# Altium integrated library Intersil Discrete MOSFET.IntLib: 281 symbols (part 2 of 5)
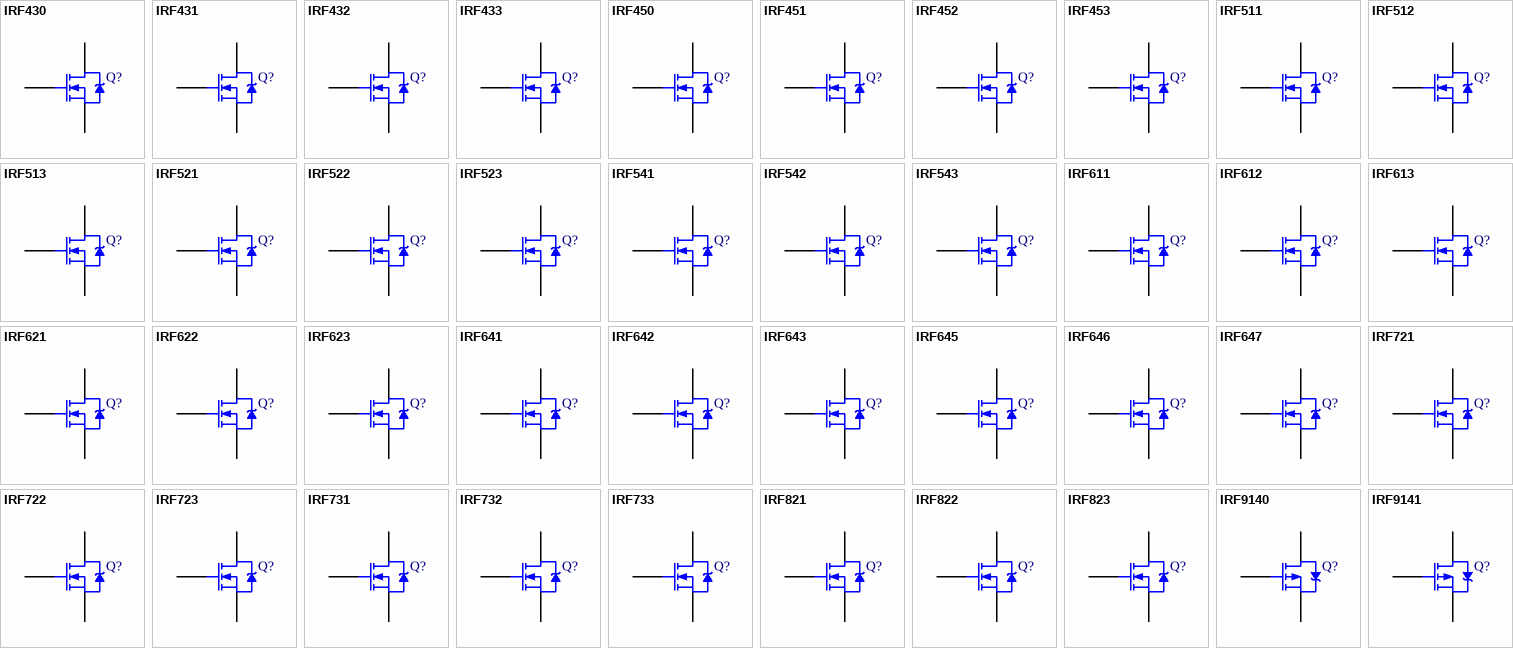
[diagram p8: symbols IRF430 to IRF9141]

## IRF722
designator Q?
2.8A, 400V, 2.5 Ohm, N-Channel Power MOSFET; Note: Pin 2 (drain) is electrically connected to the flange; Published: 8-Jun-2000; LatestRevisionDate: 17-Jul-2002; LatestRevisionNote: Re-released for DXP Platform.; DatasheetVersion: Jul-1998; PackageVersion: 1994; PackageReference: TO-220AB; Publisher: Altium Limited; PackageDescription: TO, Thru-Hole, Vertical, Heatsink Mounted; 3 In-Line Leads; Pitch 2.54 mm; ComponentLink1Description: Manufacturer Link; ComponentLink1URL: http://www.intersil.com/cda/home/
footprint TO-220AB (TO, Thru-Hole, Vertical, Heatsink Mounted; 3 In-Line Leads; Pitch 2.54 mm)
simulation model IRF722 (SUBCKT)
pins: 1 G, 2 D, 3 S

## IRF723
designator Q?
2.8A, 350V, 2.5 Ohm, N-Channel Power MOSFET; Note: Pin 2 (drain) is electrically connected to the flange; Published: 8-Jun-2000; LatestRevisionDate: 17-Jul-2002; LatestRevisionNote: Re-released for DXP Platform.; DatasheetVersion: Jul-1998; PackageVersion: 1994; PackageReference: TO-220AB; Publisher: Altium Limited; PackageDescription: TO, Thru-Hole, Vertical, Heatsink Mounted; 3 In-Line Leads; Pitch 2.54 mm; ComponentLink1Description: Manufacturer Link; ComponentLink1URL: http://www.intersil.com/cda/home/
footprint TO-220AB (TO, Thru-Hole, Vertical, Heatsink Mounted; 3 In-Line Leads; Pitch 2.54 mm)
simulation model IRF723 (SUBCKT)
pins: 1 G, 2 D, 3 S

## IRF731
designator Q?
5.5A, 350V, 1.0 Ohm, N-Channel Power MOSFET; Note: Pin 2 (drain) is electrically connected to the flange; Published: 8-Jun-2000; LatestRevisionDate: 17-Jul-2002; LatestRevisionNote: Re-released for DXP Platform.; DatasheetVersion: Jul-1998; PackageVersion: 1994; PackageReference: TO-220AB; Publisher: Altium Limited; PackageDescription: TO, Thru-Hole, Vertical, Heatsink Mounted; 3 In-Line Leads; Pitch 2.54 mm; ComponentLink1Description: Manufacturer Link; ComponentLink1URL: http://www.intersil.com/cda/home/
footprint TO-220AB (TO, Thru-Hole, Vertical, Heatsink Mounted; 3 In-Line Leads; Pitch 2.54 mm)
simulation model IRF731 (SUBCKT)
pins: 1 G, 2 D, 3 S

## IRF732
designator Q?
4.5A, 400V, 1.5 Ohm, N-Channel Power MOSFET; Note: Pin 2 (drain) is electrically connected to the flange; Published: 8-Jun-2000; LatestRevisionDate: 17-Jul-2002; LatestRevisionNote: Re-released for DXP Platform.; DatasheetVersion: Jul-1998; PackageVersion: 1994; PackageReference: TO-220AB; Publisher: Altium Limited; PackageDescription: TO, Thru-Hole, Vertical, Heatsink Mounted; 3 In-Line Leads; Pitch 2.54 mm; ComponentLink1Description: Manufacturer Link; ComponentLink1URL: http://www.intersil.com/cda/home/
footprint TO-220AB (TO, Thru-Hole, Vertical, Heatsink Mounted; 3 In-Line Leads; Pitch 2.54 mm)
simulation model IRF732 (SUBCKT)
pins: 1 G, 2 D, 3 S

## IRF733
designator Q?
4.5A, 350V, 1.5 Ohm, N-Channel Power MOSFET; Note: Pin 2 (drain) is electrically connected to the flange; Published: 8-Jun-2000; LatestRevisionDate: 17-Jul-2002; LatestRevisionNote: Re-released for DXP Platform.; DatasheetVersion: Jul-1998; PackageVersion: 1994; PackageReference: TO-220AB; Publisher: Altium Limited; PackageDescription: TO, Thru-Hole, Vertical, Heatsink Mounted; 3 In-Line Leads; Pitch 2.54 mm; ComponentLink1Description: Manufacturer Link; ComponentLink1URL: http://www.intersil.com/cda/home/
footprint TO-220AB (TO, Thru-Hole, Vertical, Heatsink Mounted; 3 In-Line Leads; Pitch 2.54 mm)
simulation model IRF733 (SUBCKT)
pins: 1 G, 2 D, 3 S

## IRF821
designator Q?
2.5A, 450V, 3.0 Ohm, N-Channel Power MOSFET; Note: Pin 2 (drain) is electrically connected to the flange; Published: 8-Jun-2000; LatestRevisionDate: 17-Jul-2002; LatestRevisionNote: Re-released for DXP Platform.; DatasheetVersion: Jul-1998; PackageVersion: 1994; PackageReference: TO-220AB; Publisher: Altium Limited; PackageDescription: TO, Thru-Hole, Vertical, Heatsink Mounted; 3 In-Line Leads; Pitch 2.54 mm; ComponentLink1Description: Manufacturer Link; ComponentLink1URL: http://www.intersil.com/cda/home/
footprint TO-220AB (TO, Thru-Hole, Vertical, Heatsink Mounted; 3 In-Line Leads; Pitch 2.54 mm)
simulation model IRF821 (SUBCKT)
pins: 1 G, 2 D, 3 S

## IRF822
designator Q?
2.2A, 500V, 4.0 Ohm, N-Channel Power  MOSFET; Note: Pin 2 (drain) is electrically connected to the flange; Published: 8-Jun-2000; LatestRevisionDate: 17-Jul-2002; LatestRevisionNote: Re-released for DXP Platform.; DatasheetVersion: Jul-1998; PackageVersion: 1994; PackageReference: TO-220AB; Publisher: Altium Limited; PackageDescription: TO, Thru-Hole, Vertical, Heatsink Mounted; 3 In-Line Leads; Pitch 2.54 mm; ComponentLink1Description: Manufacturer Link; ComponentLink1URL: http://www.intersil.com/cda/home/
footprint TO-220AB (TO, Thru-Hole, Vertical, Heatsink Mounted; 3 In-Line Leads; Pitch 2.54 mm)
simulation model IRF822 (SUBCKT)
pins: 1 G, 2 D, 3 S

## IRF823
designator Q?
2.2A, 450V, 4.0 Ohm, N-Channel Power MOSFET; Note: Pin 2 (drain) is electrically connected to the flange; Published: 8-Jun-2000; LatestRevisionDate: 17-Jul-2002; LatestRevisionNote: Re-released for DXP Platform.; DatasheetVersion: Jul-1998; PackageVersion: 1994; PackageReference: TO-220AB; Publisher: Altium Limited; PackageDescription: TO, Thru-Hole, Vertical, Heatsink Mounted; 3 In-Line Leads; Pitch 2.54 mm; ComponentLink1Description: Manufacturer Link; ComponentLink1URL: http://www.intersil.com/cda/home/
footprint TO-220AB (TO, Thru-Hole, Vertical, Heatsink Mounted; 3 In-Line Leads; Pitch 2.54 mm)
simulation model IRF823 (SUBCKT)
pins: 1 G, 2 D, 3 S

## IRF9140
designator Q?
-19A, -100V, 0.20 Ohm, P-Channel Power MOSFET; Note: Pin 3 (drain) is the flange/case; Published: 8-Jun-2000; LatestRevisionDate: 17-Jul-2002; LatestRevisionNote: Re-released for DXP Platform.; DatasheetVersion: Nov-1997; PackageVersion: 1994; PackageReference: TO-204AA; Publisher: Altium Limited; PackageDescription: Oval Flange Mount with (2) Offset Leads; Pin Spacing 10.92 mm; Lead Dia. 1.06 mm (max); Code_JEDEC: TO-204 AA; ComponentLink1Description: Manufacturer Link; ComponentLink1URL: http://www.intersil.com/cda/home/
footprint TO-204AA (Oval Flange Mount with (2) Offset Leads; Pin Spacing 10.92 mm; Lead Dia. 1.06 mm (max))
simulation model IRF9140 (SUBCKT)
pins: 1 G, 2 S, 3 D

## IRF9141
designator Q?
-19A, -80V, 0.20 Ohm, P-Channel Power MOSFET; Note: Pin 3 (drain) is the flange/case; Published: 8-Jun-2000; LatestRevisionDate: 17-Jul-2002; LatestRevisionNote: Re-released for DXP Platform.; DatasheetVersion: Nov-1997; PackageVersion: 1994; PackageReference: TO-204AA; Publisher: Altium Limited; PackageDescription: Oval Flange Mount with (2) Offset Leads; Pin Spacing 10.92 mm; Lead Dia. 1.06 mm (max); Code_JEDEC: TO-204 AA; ComponentLink1Description: Manufacturer Link; ComponentLink1URL: http://www.intersil.com/cda/home/
footprint TO-204AA (Oval Flange Mount with (2) Offset Leads; Pin Spacing 10.92 mm; Lead Dia. 1.06 mm (max))
simulation model IRF9141 (SUBCKT)
pins: 1 G, 2 S, 3 D

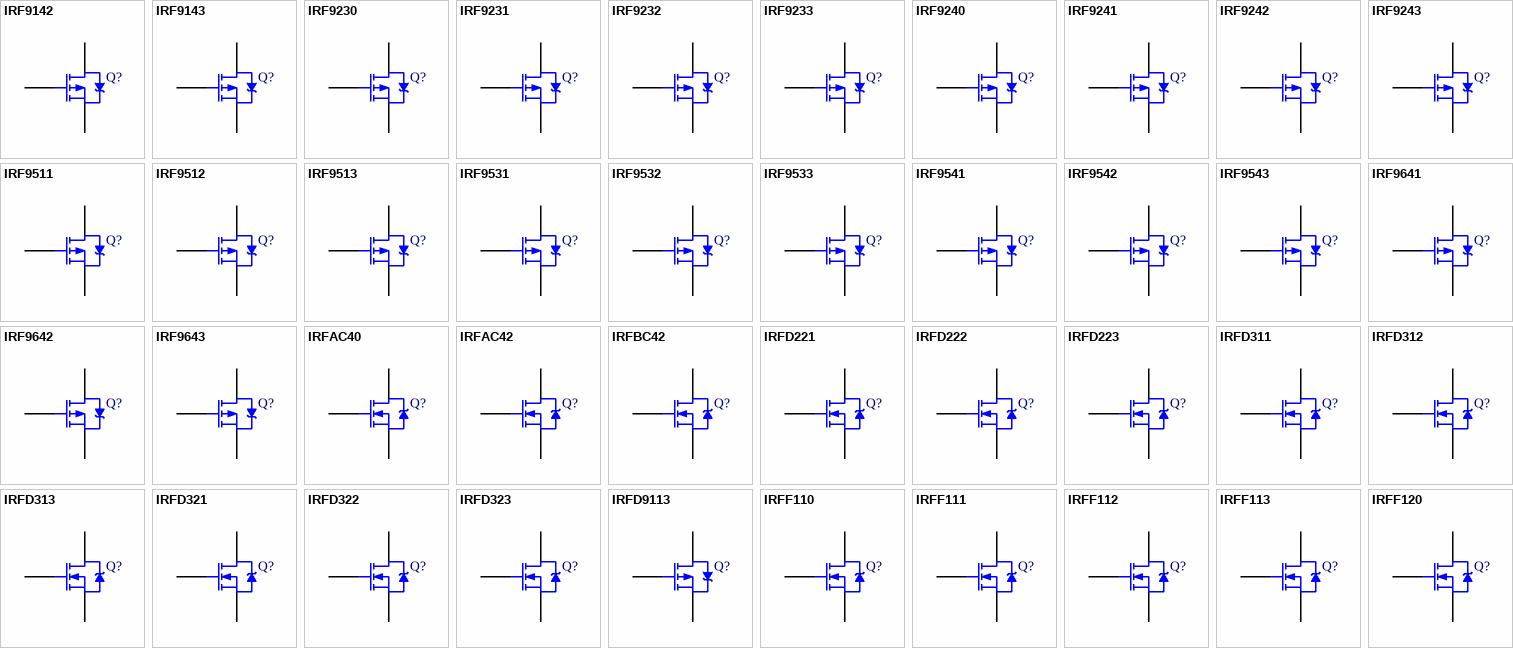
[diagram p2: symbols IRF9142 to IRFF120]

## IRF9142
designator Q?
-15A, -100V, 0.30 Ohm, P-Channel Power MOSFET; Note: Pin 3 (drain) is the flange/case; Published: 8-Jun-2000; LatestRevisionDate: 17-Jul-2002; LatestRevisionNote: Re-released for DXP Platform.; DatasheetVersion: Nov-1997; PackageVersion: 1994; PackageReference: TO-204AA; Publisher: Altium Limited; PackageDescription: Oval Flange Mount with (2) Offset Leads; Pin Spacing 10.92 mm; Lead Dia. 1.06 mm (max); Code_JEDEC: TO-204 AA; ComponentLink1Description: Manufacturer Link; ComponentLink1URL: http://www.intersil.com/cda/home/
footprint TO-204AA (Oval Flange Mount with (2) Offset Leads; Pin Spacing 10.92 mm; Lead Dia. 1.06 mm (max))
simulation model IRF9142 (SUBCKT)
pins: 1 G, 2 S, 3 D

## IRF9143
designator Q?
-15A, -80V, 0.30 Ohm, P-Channel Power MOSFET; Note: Pin 3 (drain) is the flange/case; Published: 8-Jun-2000; LatestRevisionDate: 17-Jul-2002; LatestRevisionNote: VTO made negative; Re-released for DXP Platform.; DatasheetVersion: Nov-1997; PackageVersion: 1994; PackageReference: TO-204AA; Publisher: Altium Limited; PackageDescription: Oval Flange Mount with (2) Offset Leads; Pin Spacing 10.92 mm; Lead Dia. 1.06 mm (max); Code_JEDEC: TO-204 AA; ComponentLink1Description: Manufacturer Link; ComponentLink1URL: http://www.intersil.com/cda/home/
footprint TO-204AA (Oval Flange Mount with (2) Offset Leads; Pin Spacing 10.92 mm; Lead Dia. 1.06 mm (max))
simulation model IRF9143 (SUBCKT)
pins: 1 G, 2 S, 3 D

## IRF9230
designator Q?
-6.5A, -200V, 0.8 Ohm, P-Channel Power MOSFET; Note: Pin 3 (drain) is the flange/case; Published: 8-Jun-2000; LatestRevisionDate: 17-Jul-2002; LatestRevisionNote: VTO made negative; Re-released for DXP Platform.; DatasheetVersion: Jan-1998; PackageVersion: 1994; PackageReference: TO-204AA; Publisher: Altium Limited; PackageDescription: Oval Flange Mount with (2) Offset Leads; Pin Spacing 10.92 mm; Lead Dia. 1.06 mm (max); Code_JEDEC: TO-204 AA; ComponentLink1Description: Manufacturer Link; ComponentLink1URL: http://www.intersil.com/cda/home/
footprint TO-204AA (Oval Flange Mount with (2) Offset Leads; Pin Spacing 10.92 mm; Lead Dia. 1.06 mm (max))
simulation model IRF9230 (SUBCKT)
pins: 1 G, 2 S, 3 D

## IRF9231
designator Q?
-6.5A, -150V, 0.8 Ohm, P-Channel Power MOSFET; Note: Pin 3 (drain) is the flange/case; Published: 8-Jun-2000; LatestRevisionDate: 17-Jul-2002; LatestRevisionNote: Re-released for DXP Platform.; DatasheetVersion: Jan-1998; PackageVersion: 1994; PackageReference: TO-204AA; Publisher: Altium Limited; PackageDescription: Oval Flange Mount with (2) Offset Leads; Pin Spacing 10.92 mm; Lead Dia. 1.06 mm (max); Code_JEDEC: TO-204 AA; ComponentLink1Description: Manufacturer Link; ComponentLink1URL: http://www.intersil.com/cda/home/
footprint TO-204AA (Oval Flange Mount with (2) Offset Leads; Pin Spacing 10.92 mm; Lead Dia. 1.06 mm (max))
simulation model IRF9231 (SUBCKT)
pins: 1 G, 2 S, 3 D

## IRF9232
designator Q?
-5.5A, -200V, 1.2 Ohm, P-Channel Power MOSFET; Note: Pin 3 (drain) is the flange/case; Published: 8-Jun-2000; LatestRevisionDate: 17-Jul-2002; LatestRevisionNote: Re-released for DXP Platform.; DatasheetVersion: Jan-1998; PackageVersion: 1994; PackageReference: TO-204AA; Publisher: Altium Limited; PackageDescription: Oval Flange Mount with (2) Offset Leads; Pin Spacing 10.92 mm; Lead Dia. 1.06 mm (max); Code_JEDEC: TO-204 AA; ComponentLink1Description: Manufacturer Link; ComponentLink1URL: http://www.intersil.com/cda/home/
footprint TO-204AA (Oval Flange Mount with (2) Offset Leads; Pin Spacing 10.92 mm; Lead Dia. 1.06 mm (max))
simulation model IRF9232 (SUBCKT)
pins: 1 G, 2 S, 3 D

## IRF9233
designator Q?
-5.5A, -150V, 1.2 Ohm, P-Channel Power MOSFET; Note: Pin 3 (drain) is the flange/case; Published: 8-Jun-2000; LatestRevisionDate: 17-Jul-2002; LatestRevisionNote: VTO made negative; Re-released for DXP Platform.; DatasheetVersion: Jan-1998; PackageVersion: 1994; PackageReference: TO-204AA; Publisher: Altium Limited; PackageDescription: Oval Flange Mount with (2) Offset Leads; Pin Spacing 10.92 mm; Lead Dia. 1.06 mm (max); Code_JEDEC: TO-204 AA; ComponentLink1Description: Manufacturer Link; ComponentLink1URL: http://www.intersil.com/cda/home/
footprint TO-204AA (Oval Flange Mount with (2) Offset Leads; Pin Spacing 10.92 mm; Lead Dia. 1.06 mm (max))
simulation model IRF9233 (SUBCKT)
pins: 1 G, 2 S, 3 D

## IRF9240
designator Q?
-11A, -200V, 0.5 Ohm, P-Channel Power MOSFET; Note: Pin 3 (drain) is the flange/case; Published: 8-Jun-2000; LatestRevisionDate: 17-Jul-2002; LatestRevisionNote: Re-released for DXP Platform.; DatasheetVersion: Jan-1998; PackageVersion: 1994; PackageReference: TO-204AA; Publisher: Altium Limited; PackageDescription: Oval Flange Mount with (2) Offset Leads; Pin Spacing 10.92 mm; Lead Dia. 1.06 mm (max); Code_JEDEC: TO-204 AA; ComponentLink1Description: Manufacturer Link; ComponentLink1URL: http://www.intersil.com/cda/home/
footprint TO-204AA (Oval Flange Mount with (2) Offset Leads; Pin Spacing 10.92 mm; Lead Dia. 1.06 mm (max))
simulation model IRF9240 (SUBCKT)
pins: 1 G, 2 S, 3 D

## IRF9241
designator Q?
-11A, -150V, 0.5 Ohm, P-Channel Power MOSFET; Note: Pin 3 (drain) is the flange/case; Published: 8-Jun-2000; LatestRevisionDate: 17-Jul-2002; LatestRevisionNote: VTO made negative; Re-released for DXP Platform.; DatasheetVersion: Jan-1998; PackageVersion: 1994; PackageReference: TO-204AA; Publisher: Altium Limited; PackageDescription: Oval Flange Mount with (2) Offset Leads; Pin Spacing 10.92 mm; Lead Dia. 1.06 mm (max); Code_JEDEC: TO-204 AA; ComponentLink1Description: Manufacturer Link; ComponentLink1URL: http://www.intersil.com/cda/home/
footprint TO-204AA (Oval Flange Mount with (2) Offset Leads; Pin Spacing 10.92 mm; Lead Dia. 1.06 mm (max))
simulation model IRF9241 (SUBCKT)
pins: 1 G, 2 S, 3 D

## IRF9242
designator Q?
-9A, -200V, 0.7 Ohm, P-Channel Power MOSFET; Note: Pin 3 (drain) is the flange/case; Published: 8-Jun-2000; LatestRevisionDate: 17-Jul-2002; LatestRevisionNote: Re-released for DXP Platform.; DatasheetVersion: Jan-1998; PackageVersion: 1994; PackageReference: TO-204AA; Publisher: Altium Limited; PackageDescription: Oval Flange Mount with (2) Offset Leads; Pin Spacing 10.92 mm; Lead Dia. 1.06 mm (max); Code_JEDEC: TO-204 AA; ComponentLink1Description: Manufacturer Link; ComponentLink1URL: http://www.intersil.com/cda/home/
footprint TO-204AA (Oval Flange Mount with (2) Offset Leads; Pin Spacing 10.92 mm; Lead Dia. 1.06 mm (max))
simulation model IRF9242 (SUBCKT)
pins: 1 G, 2 S, 3 D

## IRF9243
designator Q?
-9A, -150V, 0.7 Ohm, P-Channel Power MOSFET; Note: Pin 3 (drain) is the flange/case; Published: 8-Jun-2000; LatestRevisionDate: 17-Jul-2002; LatestRevisionNote: VTO made negative; Re-released for DXP Platform.; DatasheetVersion: Jan-1998; PackageVersion: 1994; PackageReference: TO-204AA; Publisher: Altium Limited; PackageDescription: Oval Flange Mount with (2) Offset Leads; Pin Spacing 10.92 mm; Lead Dia. 1.06 mm (max); Code_JEDEC: TO-204 AA; ComponentLink1Description: Manufacturer Link; ComponentLink1URL: http://www.intersil.com/cda/home/
footprint TO-204AA (Oval Flange Mount with (2) Offset Leads; Pin Spacing 10.92 mm; Lead Dia. 1.06 mm (max))
simulation model IRF9243 (SUBCKT)
pins: 1 G, 2 S, 3 D

## IRF9511
designator Q?
-3A, -80V, 1.2 Ohm, P-Channel Power MOSFET; Note: Pin 2 (drain) is electrically connected to the flange; Published: 8-Jun-2000; LatestRevisionDate: 17-Jul-2002; LatestRevisionNote: Re-released for DXP Platform.; DatasheetVersion: Jan-1998; PackageVersion: 1994; PackageReference: TO-220AB; Publisher: Altium Limited; PackageDescription: TO, Thru-Hole, Vertical, Heatsink Mounted; 3 In-Line Leads; Pitch 2.54 mm; ComponentLink1Description: Manufacturer Link; ComponentLink1URL: http://www.intersil.com/cda/home/
footprint TO-220AB (TO, Thru-Hole, Vertical, Heatsink Mounted; 3 In-Line Leads; Pitch 2.54 mm)
simulation model IRF9511 (SUBCKT)
pins: 1 G, 2 D, 3 S

## IRF9512
designator Q?
-2.5A, -100V, 1.6 Ohm, P-Channel Power MOSFET; Note: Pin 2 (drain) is electrically connected to the flange; Published: 8-Jun-2000; LatestRevisionDate: 17-Jul-2002; LatestRevisionNote: Re-released for DXP Platform.; DatasheetVersion: Jan-1998; PackageVersion: 1994; PackageReference: TO-220AB; Publisher: Altium Limited; PackageDescription: TO, Thru-Hole, Vertical, Heatsink Mounted; 3 In-Line Leads; Pitch 2.54 mm; ComponentLink1Description: Manufacturer Link; ComponentLink1URL: http://www.intersil.com/cda/home/
footprint TO-220AB (TO, Thru-Hole, Vertical, Heatsink Mounted; 3 In-Line Leads; Pitch 2.54 mm)
simulation model IRF9512 (SUBCKT)
pins: 1 G, 2 D, 3 S

## IRF9513
designator Q?
-2.5A, -80V, 1.6 Ohm, P-Channel Power MOSFET; Note: Pin 2 (drain) is electrically connected to the flange; Published: 8-Jun-2000; LatestRevisionDate: 17-Jul-2002; LatestRevisionNote: VTO made negative; Re-released for DXP Platform.; DatasheetVersion: Jan-1998; PackageVersion: 1994; PackageReference: TO-220AB; Publisher: Altium Limited; PackageDescription: TO, Thru-Hole, Vertical, Heatsink Mounted; 3 In-Line Leads; Pitch 2.54 mm; ComponentLink1Description: Manufacturer Link; ComponentLink1URL: http://www.intersil.com/cda/home/
footprint TO-220AB (TO, Thru-Hole, Vertical, Heatsink Mounted; 3 In-Line Leads; Pitch 2.54 mm)
simulation model IRF9513 (SUBCKT)
pins: 1 G, 2 D, 3 S

## IRF9531
designator Q?
-12A, -80V, 0.3 Ohm, P-Channel Power MOSFET; Note: Pin 2 (drain) is electrically connected to the flange; Published: 8-Jun-2000; LatestRevisionDate: 17-Jul-2002; LatestRevisionNote: VTO made negative; Re-released for DXP Platform.; DatasheetVersion: Jan-1998; PackageVersion: 1994; PackageReference: TO-220AB; Publisher: Altium Limited; PackageDescription: TO, Thru-Hole, Vertical, Heatsink Mounted; 3 In-Line Leads; Pitch 2.54 mm; ComponentLink1Description: Manufacturer Link; ComponentLink1URL: http://www.intersil.com/cda/home/
footprint TO-220AB (TO, Thru-Hole, Vertical, Heatsink Mounted; 3 In-Line Leads; Pitch 2.54 mm)
simulation model IRF9531 (SUBCKT)
pins: 1 G, 2 D, 3 S

## IRF9532
designator Q?
-10A, -100V, 0.4 Ohm, P-Channel Power MOSFET; Note: Pin 2 (drain) is electrically connected to the flange; Published: 8-Jun-2000; LatestRevisionDate: 17-Jul-2002; LatestRevisionNote: VTO made negative; Re-released for DXP Platform.; DatasheetVersion: Jan-1998; PackageVersion: 1994; PackageReference: TO-220AB; Publisher: Altium Limited; PackageDescription: TO, Thru-Hole, Vertical, Heatsink Mounted; 3 In-Line Leads; Pitch 2.54 mm; ComponentLink1Description: Manufacturer Link; ComponentLink1URL: http://www.intersil.com/cda/home/
footprint TO-220AB (TO, Thru-Hole, Vertical, Heatsink Mounted; 3 In-Line Leads; Pitch 2.54 mm)
simulation model IRF9532 (SUBCKT)
pins: 1 G, 2 D, 3 S

## IRF9533
designator Q?
-10A, -80V, 0.4 Ohm, P-Channel Powers MOSFET; Note: Pin 2 (drain) is electrically connected to the flange; Published: 8-Jun-2000; LatestRevisionDate: 17-Jul-2002; LatestRevisionNote: VTO made negative; Re-released for DXP Platform.; DatasheetVersion: Jan-1998; PackageVersion: 1994; PackageReference: TO-220AB; Publisher: Altium Limited; PackageDescription: TO, Thru-Hole, Vertical, Heatsink Mounted; 3 In-Line Leads; Pitch 2.54 mm; ComponentLink1Description: Manufacturer Link; ComponentLink1URL: http://www.intersil.com/cda/home/
footprint TO-220AB (TO, Thru-Hole, Vertical, Heatsink Mounted; 3 In-Line Leads; Pitch 2.54 mm)
simulation model IRF9533 (SUBCKT)
pins: 1 G, 2 D, 3 S

## IRF9541
designator Q?
-19A, -80V, 0.2 Ohm, P-Channel Power MOSFET; Note: Pin 2 (drain) is electrically connected to the flange; Published: 8-Jun-2000; LatestRevisionDate: 17-Jul-2002; LatestRevisionNote: VTO made negative; Re-released for DXP Platform.; DatasheetVersion: Jul-1998; PackageVersion: 1994; PackageReference: TO-220AB; Publisher: Altium Limited; PackageDescription: TO, Thru-Hole, Vertical, Heatsink Mounted; 3 In-Line Leads; Pitch 2.54 mm; ComponentLink1Description: Manufacturer Link; ComponentLink1URL: http://www.intersil.com/cda/home/
footprint TO-220AB (TO, Thru-Hole, Vertical, Heatsink Mounted; 3 In-Line Leads; Pitch 2.54 mm)
simulation model IRF9541 (SUBCKT)
pins: 1 G, 2 D, 3 S

## IRF9542
designator Q?
-15A, -100V, 0.3 Ohm, P-Channel Power MOSFET; Note: Pin 2 (drain) is electrically connected to the flange; Published: 8-Jun-2000; LatestRevisionDate: 17-Jul-2002; LatestRevisionNote: VTO made negative; Re-released for DXP Platform.; DatasheetVersion: Jul-1998; PackageVersion: 1994; PackageReference: TO-220AB; Publisher: Altium Limited; PackageDescription: TO, Thru-Hole, Vertical, Heatsink Mounted; 3 In-Line Leads; Pitch 2.54 mm; ComponentLink1Description: Manufacturer Link; ComponentLink1URL: http://www.intersil.com/cda/home/
footprint TO-220AB (TO, Thru-Hole, Vertical, Heatsink Mounted; 3 In-Line Leads; Pitch 2.54 mm)
simulation model IRF9542 (SUBCKT)
pins: 1 G, 2 D, 3 S

## IRF9543
designator Q?
-15A, -80V, 0.3 Ohm, P-Channel Power MOSFET; Note: Pin 2 (drain) is electrically connected to the flange; Published: 8-Jun-2000; LatestRevisionDate: 17-Jul-2002; LatestRevisionNote: Re-released for DXP Platform.; DatasheetVersion: Jul-1998; PackageVersion: 1994; PackageReference: TO-220AB; Publisher: Altium Limited; PackageDescription: TO, Thru-Hole, Vertical, Heatsink Mounted; 3 In-Line Leads; Pitch 2.54 mm; ComponentLink1Description: Manufacturer Link; ComponentLink1URL: http://www.intersil.com/cda/home/
footprint TO-220AB (TO, Thru-Hole, Vertical, Heatsink Mounted; 3 In-Line Leads; Pitch 2.54 mm)
simulation model IRF9543 (SUBCKT)
pins: 1 G, 2 D, 3 S

## IRF9641
designator Q?
-11A, -150V, 0.5 Ohm, P-Channel Power MOSFET; Note: Pin 2 (drain) is electrically connected to the flange; Published: 8-Jun-2000; LatestRevisionDate: 17-Jul-2002; LatestRevisionNote: Re-released for DXP Platform.; DatasheetVersion: Dec-1997; PackageVersion: 1994; PackageReference: TO-220AB; Publisher: Altium Limited; PackageDescription: TO, Thru-Hole, Vertical, Heatsink Mounted; 3 In-Line Leads; Pitch 2.54 mm; ComponentLink1Description: Manufacturer Link; ComponentLink1URL: http://www.intersil.com/cda/home/
footprint TO-220AB (TO, Thru-Hole, Vertical, Heatsink Mounted; 3 In-Line Leads; Pitch 2.54 mm)
simulation model IRF9641 (SUBCKT)
pins: 1 G, 2 D, 3 S

## IRF9642
designator Q?
-9A, -200V, 0.7 Ohm, P-Channel Power MOSFET; Note: Pin 2 (drain) is electrically connected to the flange; Published: 8-Jun-2000; LatestRevisionDate: 17-Jul-2002; LatestRevisionNote: Re-released for DXP Platform.; DatasheetVersion: Dec-1997; PackageVersion: 1994; PackageReference: TO-220AB; Publisher: Altium Limited; PackageDescription: TO, Thru-Hole, Vertical, Heatsink Mounted; 3 In-Line Leads; Pitch 2.54 mm; ComponentLink1Description: Manufacturer Link; ComponentLink1URL: http://www.intersil.com/cda/home/
footprint TO-220AB (TO, Thru-Hole, Vertical, Heatsink Mounted; 3 In-Line Leads; Pitch 2.54 mm)
simulation model IRF9642 (SUBCKT)
pins: 1 G, 2 D, 3 S

## IRF9643
designator Q?
-9A, -150V, 0.7 Ohm, P-Channel Power MOSFET; Note: Pin 2 (drain) is electrically connected to the flange; Published: 8-Jun-2000; LatestRevisionDate: 17-Jul-2002; LatestRevisionNote: VTO made negative; Re-released for DXP Platform.; DatasheetVersion: Dec-1997; PackageVersion: 1994; PackageReference: TO-220AB; Publisher: Altium Limited; PackageDescription: TO, Thru-Hole, Vertical, Heatsink Mounted; 3 In-Line Leads; Pitch 2.54 mm; ComponentLink1Description: Manufacturer Link; ComponentLink1URL: http://www.intersil.com/cda/home/
footprint TO-220AB (TO, Thru-Hole, Vertical, Heatsink Mounted; 3 In-Line Leads; Pitch 2.54 mm)
simulation model IRF9643 (SUBCKT)
pins: 1 G, 2 D, 3 S

## IRFAC40
designator Q?
6.2A, 600V, 1.2 Ohm, N-Channel Power MOSFET; Note: Pin 3 (drain) is the flange/case; Published: 8-Jun-2000; LatestRevisionDate: 17-Jul-2002; LatestRevisionNote: Re-released for DXP Platform.; DatasheetVersion: Jan-1998; PackageVersion: 1994; PackageReference: TO-204AA; Publisher: Altium Limited; PackageDescription: Oval Flange Mount with (2) Offset Leads; Pin Spacing 10.92 mm; Lead Dia. 1.06 mm (max); Code_JEDEC: TO-204 AA; ComponentLink1Description: Manufacturer Link; ComponentLink1URL: http://www.intersil.com/cda/home/
footprint TO-204AA (Oval Flange Mount with (2) Offset Leads; Pin Spacing 10.92 mm; Lead Dia. 1.06 mm (max))
simulation model IRFAC40 (SUBCKT)
pins: 1 G, 2 S, 3 D

## IRFAC42
designator Q?
5.4A, 600V, 1.6 Ohm, N-Channel Power MOSFET; Note: Pin 3 (drain) is the flange/case; Published: 8-Jun-2000; LatestRevisionDate: 17-Jul-2002; LatestRevisionNote: Re-released for DXP Platform.; DatasheetVersion: Jan-1998; PackageVersion: 1994; PackageReference: TO-204AA; Publisher: Altium Limited; PackageDescription: Oval Flange Mount with (2) Offset Leads; Pin Spacing 10.92 mm; Lead Dia. 1.06 mm (max); Code_JEDEC: TO-204 AA; ComponentLink1Description: Manufacturer Link; ComponentLink1URL: http://www.intersil.com/cda/home/
footprint TO-204AA (Oval Flange Mount with (2) Offset Leads; Pin Spacing 10.92 mm; Lead Dia. 1.06 mm (max))
simulation model IRFAC42 (SUBCKT)
pins: 1 G, 2 S, 3 D

## IRFBC42
designator Q?
5.4A, 600V, 1.6 Ohm, N-Channel Power MOSFET; Note: Pin 2 (drain) is electrically connected to the flange; Published: 8-Jun-2000; LatestRevisionDate: 17-Jul-2002; LatestRevisionNote: Re-released for DXP Platform.; DatasheetVersion: Jan-1998; PackageVersion: 1994; PackageReference: TO-220AB; Publisher: Altium Limited; PackageDescription: TO, Thru-Hole, Vertical, Heatsink Mounted; 3 In-Line Leads; Pitch 2.54 mm; ComponentLink1Description: Manufacturer Link; ComponentLink1URL: http://www.intersil.com/cda/home/
footprint TO-220AB (TO, Thru-Hole, Vertical, Heatsink Mounted; 3 In-Line Leads; Pitch 2.54 mm)
simulation model IRFBC42 (SUBCKT)
pins: 1 G, 2 D, 3 S

## IRFD221
designator Q?
0.8A, 150V, 0.8 Ohm, N-Channel Power MOSFET; Note: Pin 4 is not drawn; Published: 8-Jun-2000; LatestRevisionDate: 29-May-2009; LatestRevisionNote: Component Body Added.; DatasheetVersion: Jan-1998; PackageVersion: Jan-1993; PackageReference: HEXDIP; Publisher: Altium Limited; PackageDescription: DIP, 4-Pin, Row Spacing 7.62 mm, Pitch 2.54 mm; ComponentLink1Description: Manufacturer Link; ComponentLink1URL: http://www.intersil.com/cda/home/
footprint HEXDIP (DIP, 4-Leads, Row Spacing 7.62mm, Pitch 2.54mm, Body 4.98x6.22mm)
3D model HEXDIP (DIP, 4-Pin, Row Spacing 7.62 mm, Pitch 2.54 mm)
simulation model IRFD221 (SUBCKT)
pins: 1 G, 2 S, 3 D

## IRFD222
designator Q?
0.7A, 200V, 1.2 Ohm, N-Channel Power MOSFET; Note: Pin 4 is not drawn; Published: 8-Jun-2000; LatestRevisionDate: 29-May-2009; LatestRevisionNote: Component Body Added.; DatasheetVersion: Jan-1998; PackageVersion: Jan-1993; PackageReference: HEXDIP; Publisher: Altium Limited; PackageDescription: DIP, 4-Pin, Row Spacing 7.62 mm, Pitch 2.54 mm; ComponentLink1Description: Manufacturer Link; ComponentLink1URL: http://www.intersil.com/cda/home/
footprint HEXDIP (DIP, 4-Leads, Row Spacing 7.62mm, Pitch 2.54mm, Body 4.98x6.22mm)
3D model HEXDIP (DIP, 4-Pin, Row Spacing 7.62 mm, Pitch 2.54 mm)
simulation model IRFD222 (SUBCKT)
pins: 1 G, 2 S, 3 D

## IRFD223
designator Q?
0.7A, 150V, 1.2 Ohm, N-Channel Power MOSFET; Note: Pin 4 is not drawn; Published: 8-Jun-2000; LatestRevisionDate: 29-May-2009; LatestRevisionNote: Component Body Added.; DatasheetVersion: Jan-1998; PackageVersion: Jan-1993; PackageReference: HEXDIP; Publisher: Altium Limited; PackageDescription: DIP, 4-Pin, Row Spacing 7.62 mm, Pitch 2.54 mm; ComponentLink1Description: Manufacturer Link; ComponentLink1URL: http://www.intersil.com/cda/home/
footprint HEXDIP (DIP, 4-Leads, Row Spacing 7.62mm, Pitch 2.54mm, Body 4.98x6.22mm)
3D model HEXDIP (DIP, 4-Pin, Row Spacing 7.62 mm, Pitch 2.54 mm)
simulation model IRFD223 (SUBCKT)
pins: 1 G, 2 S, 3 D

## IRFD311
designator Q?
0.4A, 350V, 3.6 Ohm, N-Channel Power MOSFET; Note: Pin 4 is not drawn; Published: 8-Jun-2000; LatestRevisionDate: 29-May-2009; LatestRevisionNote: Component Body Added.; DatasheetVersion: Jul-1998; PackageVersion: Jan-1993; PackageReference: HEXDIP; Publisher: Altium Limited; PackageDescription: DIP, 4-Pin, Row Spacing 7.62 mm, Pitch 2.54 mm; ComponentLink1Description: Manufacturer Link; ComponentLink1URL: http://www.intersil.com/cda/home/
footprint HEXDIP (DIP, 4-Leads, Row Spacing 7.62mm, Pitch 2.54mm, Body 4.98x6.22mm)
3D model HEXDIP (DIP, 4-Pin, Row Spacing 7.62 mm, Pitch 2.54 mm)
simulation model IRFD311 (SUBCKT)
pins: 1 G, 2 S, 3 D

## IRFD312
designator Q?
0.3A, 400V, 5.0 Ohm, N-Channel Power MOSFET; Note: Pin 4 is not drawn; Published: 8-Jun-2000; LatestRevisionDate: 29-May-2009; LatestRevisionNote: Component Body Added.; DatasheetVersion: Jul-1998; PackageVersion: Jan-1993; PackageReference: HEXDIP; Publisher: Altium Limited; PackageDescription: DIP, 4-Pin, Row Spacing 7.62 mm, Pitch 2.54 mm; ComponentLink1Description: Manufacturer Link; ComponentLink1URL: http://www.intersil.com/cda/home/
footprint HEXDIP (DIP, 4-Leads, Row Spacing 7.62mm, Pitch 2.54mm, Body 4.98x6.22mm)
3D model HEXDIP (DIP, 4-Pin, Row Spacing 7.62 mm, Pitch 2.54 mm)
simulation model IRFD312 (SUBCKT)
pins: 1 G, 2 S, 3 D

## IRFD313
designator Q?
0.3A, 350V, 5.0Ohm, N-Channel Power MOSFET; Note: Pin 4 is not drawn; Published: 8-Jun-2000; LatestRevisionDate: 29-May-2009; LatestRevisionNote: Component Body Added.; DatasheetVersion: Jul-1998; PackageVersion: Jan-1993; PackageReference: HEXDIP; Publisher: Altium Limited; PackageDescription: DIP, 4-Pin, Row Spacing 7.62 mm, Pitch 2.54 mm; ComponentLink1Description: Manufacturer Link; ComponentLink1URL: http://www.intersil.com/cda/home/
footprint HEXDIP (DIP, 4-Leads, Row Spacing 7.62mm, Pitch 2.54mm, Body 4.98x6.22mm)
3D model HEXDIP (DIP, 4-Pin, Row Spacing 7.62 mm, Pitch 2.54 mm)
simulation model IRFD313 (SUBCKT)
pins: 1 G, 2 S, 3 D

## IRFD321
designator Q?
0.5A, 350V, 1.8 Ohm, N-Channel Power MOSFET; Note: Pin 4 is not drawn; Published: 8-Jun-2000; LatestRevisionDate: 29-May-2009; LatestRevisionNote: Component Body Added.; DatasheetVersion: Jul-1998; PackageVersion: Jan-1993; PackageReference: HEXDIP; Publisher: Altium Limited; PackageDescription: DIP, 4-Pin, Row Spacing 7.62 mm, Pitch 2.54 mm; ComponentLink1Description: Manufacturer Link; ComponentLink1URL: http://www.intersil.com/cda/home/
footprint HEXDIP (DIP, 4-Leads, Row Spacing 7.62mm, Pitch 2.54mm, Body 4.98x6.22mm)
3D model HEXDIP (DIP, 4-Pin, Row Spacing 7.62 mm, Pitch 2.54 mm)
simulation model IRFD321 (SUBCKT)
pins: 1 G, 2 S, 3 D

## IRFD322
designator Q?
0.4A, 400V, 2.5 Ohm, N-Channel Power MOSFET; Note: Pin 4 is not drawn; Published: 8-Jun-2000; LatestRevisionDate: 29-May-2009; LatestRevisionNote: Component Body Added.; DatasheetVersion: Jul-1998; PackageVersion: Jan-1993; PackageReference: HEXDIP; Publisher: Altium Limited; PackageDescription: DIP, 4-Pin, Row Spacing 7.62 mm, Pitch 2.54 mm; ComponentLink1Description: Manufacturer Link; ComponentLink1URL: http://www.intersil.com/cda/home/
footprint HEXDIP (DIP, 4-Leads, Row Spacing 7.62mm, Pitch 2.54mm, Body 4.98x6.22mm)
3D model HEXDIP (DIP, 4-Pin, Row Spacing 7.62 mm, Pitch 2.54 mm)
simulation model IRFD322 (SUBCKT)
pins: 1 G, 2 S, 3 D

## IRFD323
designator Q?
0.4A, 350V, 2.5 Ohm, N-Channel Power MOSFET; Note: Pin 4 is not drawn; Published: 8-Jun-2000; LatestRevisionDate: 29-May-2009; LatestRevisionNote: Component Body Added.; DatasheetVersion: Jul-1998; PackageVersion: Jan-1993; PackageReference: HEXDIP; Publisher: Altium Limited; PackageDescription: DIP, 4-Pin, Row Spacing 7.62 mm, Pitch 2.54 mm; ComponentLink1Description: Manufacturer Link; ComponentLink1URL: http://www.intersil.com/cda/home/
footprint HEXDIP (DIP, 4-Leads, Row Spacing 7.62mm, Pitch 2.54mm, Body 4.98x6.22mm)
3D model HEXDIP (DIP, 4-Pin, Row Spacing 7.62 mm, Pitch 2.54 mm)
simulation model IRFD323 (SUBCKT)
pins: 1 G, 2 S, 3 D

## IRFD9113
designator Q?
-0.6A, -80V, 1.6 Ohm, P-Channel Power MOSFET; Note: Pin 4 is not drawn; Published: 8-Jun-2000; LatestRevisionDate: 29-May-2009; LatestRevisionNote: Component Body Added.; DatasheetVersion: Jan-1998; PackageVersion: Jan-1993; PackageReference: HEXDIP; Publisher: Altium Limited; PackageDescription: DIP, 4-Pin, Row Spacing 7.62 mm, Pitch 2.54 mm; ComponentLink1Description: Manufacturer Link; ComponentLink1URL: http://www.intersil.com/cda/home/
footprint HEXDIP (DIP, 4-Leads, Row Spacing 7.62mm, Pitch 2.54mm, Body 4.98x6.22mm)
3D model HEXDIP (DIP, 4-Pin, Row Spacing 7.62 mm, Pitch 2.54 mm)
simulation model IRFD9113 (SUBCKT)
pins: 1 G, 2 S, 3 D

## IRFF110
designator Q?
3.5A, 100V, 0.6 Ohm, N-Channel Power MOSFET; Note: Pin 3 (drain) is connected to the case; Published: 8-Jun-2000; LatestRevisionDate: 17-Jul-2002; LatestRevisionNote: Re-released for DXP Platform.; DatasheetVersion: Mar-1999; PackageVersion: rev3, Jun-1994; PackageReference: TO-205AF; Publisher: Altium Limited; PackageDescription: Can; 3 Leads; Pin Circle Dia. 5.08 mm; Lead Dia. 0.53 mm (max); Code_JEDEC: TO-205-AF; ComponentLink1Description: Manufacturer Link; ComponentLink1URL: http://www.intersil.com/cda/home/
footprint TO-205AF (Can; 3 Leads; Pin Circle Dia. 5.08 mm; Lead Dia. 0.53 mm (max))
simulation model IRFF110 (SUBCKT)
pins: 1 S, 2 G, 3 D

## IRFF111
designator Q?
3.5A, 80V, 0.6 Ohm, N-Channel Power MOSFET; Note: Pin 3 (drain) is connected to the case; Published: 8-Jun-2000; LatestRevisionDate: 17-Jul-2002; LatestRevisionNote: Re-released for DXP Platform.; DatasheetVersion: Jan-1998; PackageVersion: rev3, Jun-1994; PackageReference: TO-205AF; Publisher: Altium Limited; PackageDescription: Can; 3 Leads; Pin Circle Dia. 5.08 mm; Lead Dia. 0.53 mm (max); Code_JEDEC: TO-205-AF; ComponentLink1Description: Manufacturer Link; ComponentLink1URL: http://www.intersil.com/cda/home/
footprint TO-205AF (Can; 3 Leads; Pin Circle Dia. 5.08 mm; Lead Dia. 0.53 mm (max))
simulation model IRFF111 (SUBCKT)
pins: 1 S, 2 G, 3 D

## IRFF112
designator Q?
3.0A, 100V, 0.8 Ohm, N-Channel Power MOSFET; Note: Pin 3 (drain) is connected to the case; Published: 8-Jun-2000; LatestRevisionDate: 17-Jul-2002; LatestRevisionNote: Re-released for DXP Platform.; DatasheetVersion: Jan-1998; PackageVersion: rev3, Jun-1994; PackageReference: TO-205AF; Publisher: Altium Limited; PackageDescription: Can; 3 Leads; Pin Circle Dia. 5.08 mm; Lead Dia. 0.53 mm (max); Code_JEDEC: TO-205-AF; ComponentLink1Description: Manufacturer Link; ComponentLink1URL: http://www.intersil.com/cda/home/
footprint TO-205AF (Can; 3 Leads; Pin Circle Dia. 5.08 mm; Lead Dia. 0.53 mm (max))
simulation model IRFF112 (SUBCKT)
pins: 1 S, 2 G, 3 D

## IRFF113
designator Q?
3.0A, 80V, 0.8 Ohm, N-Channel Power MOSFET; Note: Pin 3 (drain) is connected to the case; Published: 8-Jun-2000; LatestRevisionDate: 17-Jul-2002; LatestRevisionNote: Re-released for DXP Platform.; DatasheetVersion: Jan-1998; PackageVersion: rev3, Jun-1994; PackageReference: TO-205AF; Publisher: Altium Limited; PackageDescription: Can; 3 Leads; Pin Circle Dia. 5.08 mm; Lead Dia. 0.53 mm (max); Code_JEDEC: TO-205-AF; ComponentLink1Description: Manufacturer Link; ComponentLink1URL: http://www.intersil.com/cda/home/
footprint TO-205AF (Can; 3 Leads; Pin Circle Dia. 5.08 mm; Lead Dia. 0.53 mm (max))
simulation model IRFF113 (SUBCKT)
pins: 1 S, 2 G, 3 D

## IRFF120
designator Q?
6.0A, 100V, 0.3 Ohm, N-Channel Power MOSFET; Note: Pin 3 (drain) is connected to the case; Published: 8-Jun-2000; LatestRevisionDate: 17-Jul-2002; LatestRevisionNote: Re-released for DXP Platform.; DatasheetVersion: Mar-1999; PackageVersion: rev3, Jun-1994; PackageReference: TO-205AF; Publisher: Altium Limited; PackageDescription: Can; 3 Leads; Pin Circle Dia. 5.08 mm; Lead Dia. 0.53 mm (max); Code_JEDEC: TO-205-AF; ComponentLink1Description: Manufacturer Link; ComponentLink1URL: http://www.intersil.com/cda/home/
footprint TO-205AF (Can; 3 Leads; Pin Circle Dia. 5.08 mm; Lead Dia. 0.53 mm (max))
simulation model IRFF120 (SUBCKT)
pins: 1 S, 2 G, 3 D

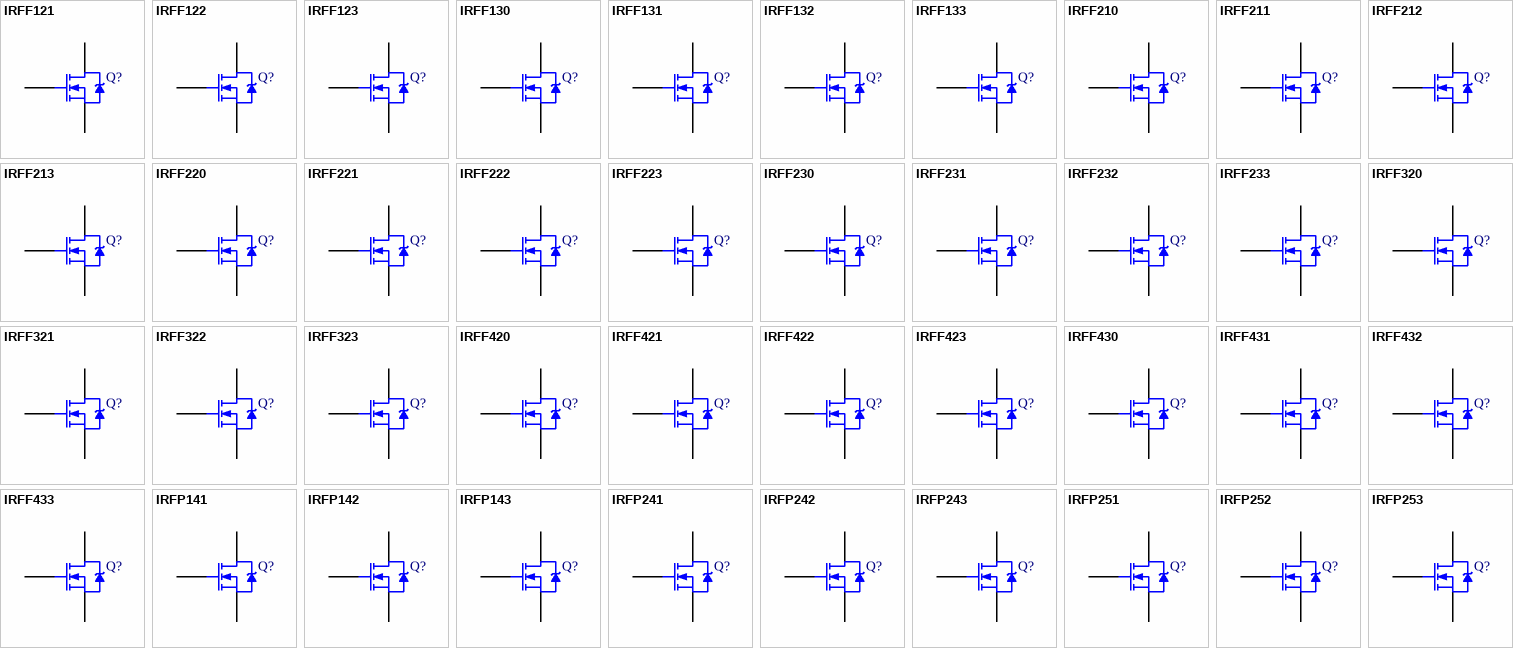
[diagram p3: symbols IRFF121 to IRFP253]

## IRFF121
designator Q?
5.0A, 80V, 0.3 Ohm, N-Channel Power MOSFET; Note: Pin 3 (drain) is connected to the case; Published: 8-Jun-2000; LatestRevisionDate: 17-Jul-2002; LatestRevisionNote: Re-released for DXP Platform.; DatasheetVersion: Jan-1998; PackageVersion: rev3, Jun-1994; PackageReference: TO-205AF; Publisher: Altium Limited; PackageDescription: Can; 3 Leads; Pin Circle Dia. 5.08 mm; Lead Dia. 0.53 mm (max); Code_JEDEC: TO-205-AF; ComponentLink1Description: Manufacturer Link; ComponentLink1URL: http://www.intersil.com/cda/home/
footprint TO-205AF (Can; 3 Leads; Pin Circle Dia. 5.08 mm; Lead Dia. 0.53 mm (max))
simulation model IRFF121 (SUBCKT)
pins: 1 S, 2 G, 3 D

## IRFF122
designator Q?
6.0A, 100V, 0.4 Ohm, N-Channel Power MOSFET; Note: Pin 3 (drain) is connected to the case; Published: 8-Jun-2000; LatestRevisionDate: 17-Jul-2002; LatestRevisionNote: Re-released for DXP Platform.; DatasheetVersion: Jan-1998; PackageVersion: rev3, Jun-1994; PackageReference: TO-205AF; Publisher: Altium Limited; PackageDescription: Can; 3 Leads; Pin Circle Dia. 5.08 mm; Lead Dia. 0.53 mm (max); Code_JEDEC: TO-205-AF; ComponentLink1Description: Manufacturer Link; ComponentLink1URL: http://www.intersil.com/cda/home/
footprint TO-205AF (Can; 3 Leads; Pin Circle Dia. 5.08 mm; Lead Dia. 0.53 mm (max))
simulation model IRFF122 (SUBCKT)
pins: 1 S, 2 G, 3 D

## IRFF123
designator Q?
5.0A, 80V, 0.4 Ohm, N-Channel Power MOSFET; Note: Pin 3 (drain) is connected to the case; Published: 8-Jun-2000; LatestRevisionDate: 17-Jul-2002; LatestRevisionNote: Re-released for DXP Platform.; DatasheetVersion: Jan-1998; PackageVersion: rev3, Jun-1994; PackageReference: TO-205AF; Publisher: Altium Limited; PackageDescription: Can; 3 Leads; Pin Circle Dia. 5.08 mm; Lead Dia. 0.53 mm (max); Code_JEDEC: TO-205-AF; ComponentLink1Description: Manufacturer Link; ComponentLink1URL: http://www.intersil.com/cda/home/
footprint TO-205AF (Can; 3 Leads; Pin Circle Dia. 5.08 mm; Lead Dia. 0.53 mm (max))
simulation model IRFF123 (SUBCKT)
pins: 1 S, 2 G, 3 D

## IRFF130
designator Q?
8.0A, 100V, 0.18 Ohm, N-Channel Power MOSFET; Note: Pin 3 (drain) is connected to the case; Published: 8-Jun-2000; LatestRevisionDate: 17-Jul-2002; LatestRevisionNote: Re-released for DXP Platform.; DatasheetVersion: Mar-1999; PackageVersion: rev3, Jun-1994; PackageReference: TO-205AF; Publisher: Altium Limited; PackageDescription: Can; 3 Leads; Pin Circle Dia. 5.08 mm; Lead Dia. 0.53 mm (max); Code_JEDEC: TO-205-AF; ComponentLink1Description: Manufacturer Link; ComponentLink1URL: http://www.intersil.com/cda/home/
footprint TO-205AF (Can; 3 Leads; Pin Circle Dia. 5.08 mm; Lead Dia. 0.53 mm (max))
simulation model IRFF130 (SUBCKT)
pins: 1 S, 2 G, 3 D

## IRFF131
designator Q?
7.0A, 80V, 0.18 Ohm, N-Channel Power MOSFET; Note: Pin 3 (drain) is connected to the case; Published: 8-Jun-2000; LatestRevisionDate: 17-Jul-2002; LatestRevisionNote: Re-released for DXP Platform.; DatasheetVersion: Jan-1998; PackageVersion: rev3, Jun-1994; PackageReference: TO-205AF; Publisher: Altium Limited; PackageDescription: Can; 3 Leads; Pin Circle Dia. 5.08 mm; Lead Dia. 0.53 mm (max); Code_JEDEC: TO-205-AF; ComponentLink1Description: Manufacturer Link; ComponentLink1URL: http://www.intersil.com/cda/home/
footprint TO-205AF (Can; 3 Leads; Pin Circle Dia. 5.08 mm; Lead Dia. 0.53 mm (max))
simulation model IRFF131 (SUBCKT)
pins: 1 S, 2 G, 3 D

## IRFF132
designator Q?
8.0A, 100V, 0.25 Ohm, N-Channel Power MOSFET; Note: Pin 3 (drain) is connected to the case; Published: 8-Jun-2000; LatestRevisionDate: 17-Jul-2002; LatestRevisionNote: Re-released for DXP Platform.; DatasheetVersion: Jan-1998; PackageVersion: rev3, Jun-1994; PackageReference: TO-205AF; Publisher: Altium Limited; PackageDescription: Can; 3 Leads; Pin Circle Dia. 5.08 mm; Lead Dia. 0.53 mm (max); Code_JEDEC: TO-205-AF; ComponentLink1Description: Manufacturer Link; ComponentLink1URL: http://www.intersil.com/cda/home/
footprint TO-205AF (Can; 3 Leads; Pin Circle Dia. 5.08 mm; Lead Dia. 0.53 mm (max))
simulation model IRFF132 (SUBCKT)
pins: 1 S, 2 G, 3 D

## IRFF133
designator Q?
7.0A, 80V, 0.25 Ohm, N-Channel Power MOSFET; Note: Pin 3 (drain) is connected to the case; Published: 8-Jun-2000; LatestRevisionDate: 17-Jul-2002; LatestRevisionNote: Re-released for DXP Platform.; DatasheetVersion: Jan-1998; PackageVersion: rev3, Jun-1994; PackageReference: TO-205AF; Publisher: Altium Limited; PackageDescription: Can; 3 Leads; Pin Circle Dia. 5.08 mm; Lead Dia. 0.53 mm (max); Code_JEDEC: TO-205-AF; ComponentLink1Description: Manufacturer Link; ComponentLink1URL: http://www.intersil.com/cda/home/
footprint TO-205AF (Can; 3 Leads; Pin Circle Dia. 5.08 mm; Lead Dia. 0.53 mm (max))
simulation model IRFF133 (SUBCKT)
pins: 1 S, 2 G, 3 D

## IRFF210
designator Q?
2.2A, 200V, 1.5 Ohm, N-Channel Power MOSFET; Note: Pin 3 (drain) is connected to the case; Published: 8-Jun-2000; LatestRevisionDate: 17-Jul-2002; LatestRevisionNote: Re-released for DXP Platform.; DatasheetVersion: Mar-1999; PackageVersion: rev3, Jun-1994; PackageReference: TO-205AF; Publisher: Altium Limited; PackageDescription: Can; 3 Leads; Pin Circle Dia. 5.08 mm; Lead Dia. 0.53 mm (max); Code_JEDEC: TO-205-AF; ComponentLink1Description: Manufacturer Link; ComponentLink1URL: http://www.intersil.com/cda/home/
footprint TO-205AF (Can; 3 Leads; Pin Circle Dia. 5.08 mm; Lead Dia. 0.53 mm (max))
simulation model IRFF210 (SUBCKT)
pins: 1 S, 2 G, 3 D

## IRFF211
designator Q?
2.2A, 150V, 1.5 Ohm, N-Channel Power MOSFET; Note: Pin 3 (drain) is connected to the case; Published: 8-Jun-2000; LatestRevisionDate: 17-Jul-2002; LatestRevisionNote: Re-released for DXP Platform.; DatasheetVersion: Jan-1998; PackageVersion: rev3, Jun-1994; PackageReference: TO-205AF; Publisher: Altium Limited; PackageDescription: Can; 3 Leads; Pin Circle Dia. 5.08 mm; Lead Dia. 0.53 mm (max); Code_JEDEC: TO-205-AF; ComponentLink1Description: Manufacturer Link; ComponentLink1URL: http://www.intersil.com/cda/home/
footprint TO-205AF (Can; 3 Leads; Pin Circle Dia. 5.08 mm; Lead Dia. 0.53 mm (max))
simulation model IRFF211 (SUBCKT)
pins: 1 S, 2 G, 3 D

## IRFF212
designator Q?
1.8A, 200V, 2.4 Ohm, N-Channel Power MOSFET; Note: Pin 3 (drain) is connected to the case; Published: 8-Jun-2000; LatestRevisionDate: 17-Jul-2002; LatestRevisionNote: Re-released for DXP Platform.; DatasheetVersion: Jan-1998; PackageVersion: rev3, Jun-1994; PackageReference: TO-205AF; Publisher: Altium Limited; PackageDescription: Can; 3 Leads; Pin Circle Dia. 5.08 mm; Lead Dia. 0.53 mm (max); Code_JEDEC: TO-205-AF; ComponentLink1Description: Manufacturer Link; ComponentLink1URL: http://www.intersil.com/cda/home/
footprint TO-205AF (Can; 3 Leads; Pin Circle Dia. 5.08 mm; Lead Dia. 0.53 mm (max))
simulation model IRFF212 (SUBCKT)
pins: 1 S, 2 G, 3 D

## IRFF213
designator Q?
1.8A, 150V, 2.4 Ohm, N-Channel Power MOSFET; Note: Pin 3 (drain) is connected to the case; Published: 8-Jun-2000; LatestRevisionDate: 17-Jul-2002; LatestRevisionNote: Re-released for DXP Platform.; DatasheetVersion: Jan-1998; PackageVersion: rev3, Jun-1994; PackageReference: TO-205AF; Publisher: Altium Limited; PackageDescription: Can; 3 Leads; Pin Circle Dia. 5.08 mm; Lead Dia. 0.53 mm (max); Code_JEDEC: TO-205-AF; ComponentLink1Description: Manufacturer Link; ComponentLink1URL: http://www.intersil.com/cda/home/
footprint TO-205AF (Can; 3 Leads; Pin Circle Dia. 5.08 mm; Lead Dia. 0.53 mm (max))
simulation model IRFF213 (SUBCKT)
pins: 1 S, 2 G, 3 D

## IRFF220
designator Q?
3.5A, 200V, 0.8 Ohm, N-Channel Power MOSFET; Note: Pin 3 (drain) is connected to the case; Published: 8-Jun-2000; LatestRevisionDate: 17-Jul-2002; LatestRevisionNote: Re-released for DXP Platform.; DatasheetVersion: Mar-1999; PackageVersion: rev3, Jun-1994; PackageReference: TO-205AF; Publisher: Altium Limited; PackageDescription: Can; 3 Leads; Pin Circle Dia. 5.08 mm; Lead Dia. 0.53 mm (max); Code_JEDEC: TO-205-AF; ComponentLink1Description: Manufacturer Link; ComponentLink1URL: http://www.intersil.com/cda/home/
footprint TO-205AF (Can; 3 Leads; Pin Circle Dia. 5.08 mm; Lead Dia. 0.53 mm (max))
simulation model IRFF220 (SUBCKT)
pins: 1 S, 2 G, 3 D

## IRFF221
designator Q?
3.5A, 150V, 0.8 Ohm, N-Channel Power MOSFET; Note: Pin 3 (drain) is connected to the case; Published: 8-Jun-2000; LatestRevisionDate: 17-Jul-2002; LatestRevisionNote: Re-released for DXP Platform.; DatasheetVersion: Jan-1998; PackageVersion: rev3, Jun-1994; PackageReference: TO-205AF; Publisher: Altium Limited; PackageDescription: Can; 3 Leads; Pin Circle Dia. 5.08 mm; Lead Dia. 0.53 mm (max); Code_JEDEC: TO-205-AF; ComponentLink1Description: Manufacturer Link; ComponentLink1URL: http://www.intersil.com/cda/home/
footprint TO-205AF (Can; 3 Leads; Pin Circle Dia. 5.08 mm; Lead Dia. 0.53 mm (max))
simulation model IRFF221 (SUBCKT)
pins: 1 S, 2 G, 3 D

## IRFF222
designator Q?
3.0A, 200V, 1.2 Ohm, N-Channel Power MOSFET; Note: Pin 3 (drain) is connected to the case; Published: 8-Jun-2000; LatestRevisionDate: 17-Jul-2002; LatestRevisionNote: Re-released for DXP Platform.; DatasheetVersion: Jan-1998; PackageVersion: rev3, Jun-1994; PackageReference: TO-205AF; Publisher: Altium Limited; PackageDescription: Can; 3 Leads; Pin Circle Dia. 5.08 mm; Lead Dia. 0.53 mm (max); Code_JEDEC: TO-205-AF; ComponentLink1Description: Manufacturer Link; ComponentLink1URL: http://www.intersil.com/cda/home/
footprint TO-205AF (Can; 3 Leads; Pin Circle Dia. 5.08 mm; Lead Dia. 0.53 mm (max))
simulation model IRFF222 (SUBCKT)
pins: 1 S, 2 G, 3 D

## IRFF223
designator Q?
3.0A, 150V, 1.2 Ohm, N-Channel Power MOSFET; Note: Pin 3 (drain) is connected to the case; Published: 8-Jun-2000; LatestRevisionDate: 17-Jul-2002; LatestRevisionNote: Re-released for DXP Platform.; DatasheetVersion: Jan-1998; PackageVersion: rev3, Jun-1994; PackageReference: TO-205AF; Publisher: Altium Limited; PackageDescription: Can; 3 Leads; Pin Circle Dia. 5.08 mm; Lead Dia. 0.53 mm (max); Code_JEDEC: TO-205-AF; ComponentLink1Description: Manufacturer Link; ComponentLink1URL: http://www.intersil.com/cda/home/
footprint TO-205AF (Can; 3 Leads; Pin Circle Dia. 5.08 mm; Lead Dia. 0.53 mm (max))
simulation model IRFF223 (SUBCKT)
pins: 1 S, 2 G, 3 D

## IRFF230
designator Q?
5.5A, 200V, 0.4 Ohm, N-Channel Power MOSFET; Note: Pin 3 (drain) is connected to the case; Published: 8-Jun-2000; LatestRevisionDate: 17-Jul-2002; LatestRevisionNote: Re-released for DXP Platform.; DatasheetVersion: Mar-1999; PackageVersion: rev3, Jun-1994; PackageReference: TO-205AF; Publisher: Altium Limited; PackageDescription: Can; 3 Leads; Pin Circle Dia. 5.08 mm; Lead Dia. 0.53 mm (max); Code_JEDEC: TO-205-AF; ComponentLink1Description: Manufacturer Link; ComponentLink1URL: http://www.intersil.com/cda/home/
footprint TO-205AF (Can; 3 Leads; Pin Circle Dia. 5.08 mm; Lead Dia. 0.53 mm (max))
simulation model IRFF230 (SUBCKT)
pins: 1 S, 2 G, 3 D

## IRFF231
designator Q?
5.5A, 150V, 0.4 Ohm, N-Channel Power MOSFET; Note: Pin 3 (drain) is connected to the case; Published: 8-Jun-2000; LatestRevisionDate: 17-Jul-2002; LatestRevisionNote: Re-released for DXP Platform.; DatasheetVersion: Jan-1998; PackageVersion: rev3, Jun-1994; PackageReference: TO-205AF; Publisher: Altium Limited; PackageDescription: Can; 3 Leads; Pin Circle Dia. 5.08 mm; Lead Dia. 0.53 mm (max); Code_JEDEC: TO-205-AF; ComponentLink1Description: Manufacturer Link; ComponentLink1URL: http://www.intersil.com/cda/home/
footprint TO-205AF (Can; 3 Leads; Pin Circle Dia. 5.08 mm; Lead Dia. 0.53 mm (max))
simulation model IRFF231 (SUBCKT)
pins: 1 S, 2 G, 3 D

## IRFF232
designator Q?
4.5A, 200V, 0.6 Ohm, N-Channel Power MOSFET; Note: Pin 3 (drain) is connected to the case; Published: 8-Jun-2000; LatestRevisionDate: 17-Jul-2002; LatestRevisionNote: Re-released for DXP Platform.; DatasheetVersion: Jan-1998; PackageVersion: rev3, Jun-1994; PackageReference: TO-205AF; Publisher: Altium Limited; PackageDescription: Can; 3 Leads; Pin Circle Dia. 5.08 mm; Lead Dia. 0.53 mm (max); Code_JEDEC: TO-205-AF; ComponentLink1Description: Manufacturer Link; ComponentLink1URL: http://www.intersil.com/cda/home/
footprint TO-205AF (Can; 3 Leads; Pin Circle Dia. 5.08 mm; Lead Dia. 0.53 mm (max))
simulation model IRFF232 (SUBCKT)
pins: 1 S, 2 G, 3 D

## IRFF233
designator Q?
4.5A, 150V, 0.6 Ohm, N-Channel Power MOSFET; Note: Pin 3 (drain) is connected to the case; Published: 8-Jun-2000; LatestRevisionDate: 17-Jul-2002; LatestRevisionNote: Re-released for DXP Platform.; DatasheetVersion: Jan-1998; PackageVersion: rev3, Jun-1994; PackageReference: TO-205AF; Publisher: Altium Limited; PackageDescription: Can; 3 Leads; Pin Circle Dia. 5.08 mm; Lead Dia. 0.53 mm (max); Code_JEDEC: TO-205-AF; ComponentLink1Description: Manufacturer Link; ComponentLink1URL: http://www.intersil.com/cda/home/
footprint TO-205AF (Can; 3 Leads; Pin Circle Dia. 5.08 mm; Lead Dia. 0.53 mm (max))
simulation model IRFF233 (SUBCKT)
pins: 1 S, 2 G, 3 D

## IRFF320
designator Q?
2.5A, 400V, 1.8 Ohm, N-Channel Power MOSFET; Note: Pin 3 (drain) is connected to the case; Published: 8-Jun-2000; LatestRevisionDate: 17-Jul-2002; LatestRevisionNote: Re-released for DXP Platform.; DatasheetVersion: Mar-1999; PackageVersion: rev3, Jun-1994; PackageReference: TO-205AF; Publisher: Altium Limited; PackageDescription: Can; 3 Leads; Pin Circle Dia. 5.08 mm; Lead Dia. 0.53 mm (max); Code_JEDEC: TO-205-AF; ComponentLink1Description: Manufacturer Link; ComponentLink1URL: http://www.intersil.com/cda/home/
footprint TO-205AF (Can; 3 Leads; Pin Circle Dia. 5.08 mm; Lead Dia. 0.53 mm (max))
simulation model IRFF320 (SUBCKT)
pins: 1 S, 2 G, 3 D

## IRFF321
designator Q?
2.5A, 350V, 1.8 Ohm, N-Channel Power MOSFET; Note: Pin 3 (drain) is connected to the case; Published: 8-Jun-2000; LatestRevisionDate: 17-Jul-2002; LatestRevisionNote: Re-released for DXP Platform.; DatasheetVersion: Jul-1998; PackageVersion: rev3, Jun-1994; PackageReference: TO-205AF; Publisher: Altium Limited; PackageDescription: Can; 3 Leads; Pin Circle Dia. 5.08 mm; Lead Dia. 0.53 mm (max); Code_JEDEC: TO-205-AF; ComponentLink1Description: Manufacturer Link; ComponentLink1URL: http://www.intersil.com/cda/home/
footprint TO-205AF (Can; 3 Leads; Pin Circle Dia. 5.08 mm; Lead Dia. 0.53 mm (max))
simulation model IRFF321 (SUBCKT)
pins: 1 S, 2 G, 3 D

## IRFF322
designator Q?
2.0A, 400V, 2.5 Ohm, N-Channel Power MOSFET; Note: Pin 3 (drain) is connected to the case; Published: 8-Jun-2000; LatestRevisionDate: 17-Jul-2002; LatestRevisionNote: Re-released for DXP Platform.; DatasheetVersion: Jul-1998; PackageVersion: rev3, Jun-1994; PackageReference: TO-205AF; Publisher: Altium Limited; PackageDescription: Can; 3 Leads; Pin Circle Dia. 5.08 mm; Lead Dia. 0.53 mm (max); Code_JEDEC: TO-205-AF; ComponentLink1Description: Manufacturer Link; ComponentLink1URL: http://www.intersil.com/cda/home/
footprint TO-205AF (Can; 3 Leads; Pin Circle Dia. 5.08 mm; Lead Dia. 0.53 mm (max))
simulation model IRFF322 (SUBCKT)
pins: 1 S, 2 G, 3 D